# Altium schematic symbol library smartlock.SchLib: 16 symbols
Pins are listed as number, name and electrical type; pins without a type are passive.

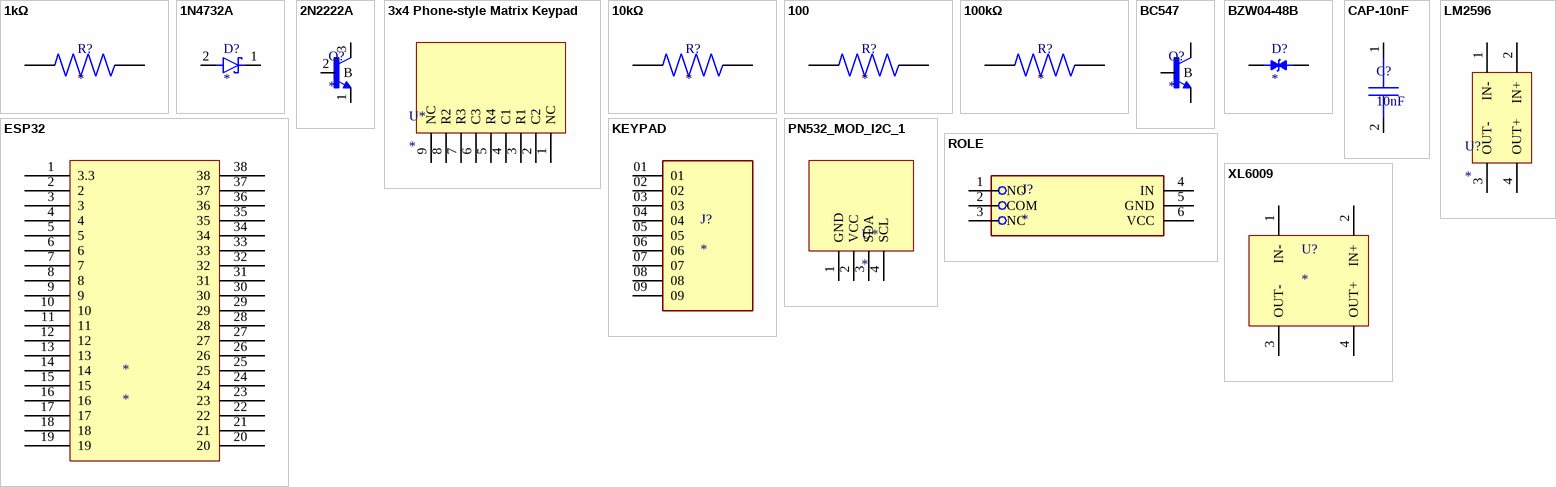
[diagram p0: symbols 1kΩ to XL6009]

## 1kΩ
designator R?
1.07 kOhms Â±1% 0.25W, 1/4W Through Hole Resistor Axial - Metal Film; MF: Yageo; MP: MFR-25FBF52-1K; SnapEDA_Link: https://www.snapeda.com/parts/MFR-25FBF52-1K/Yageo/view-part/?ref=snap; Package: RADIAL-2 YAGEO; Value: *; Check_prices: https://www.snapeda.com/parts/MFR-25FBF52-1K/Yageo/view-part/?ref=eda
footprint 1k?
pins: 1, 2

## 1N4732A
designator D?
Zener Diode 4.7 V 1 W Â±5% Through Hole DO-41; MF: ON Semiconductor; MP: 1N4732A; SnapEDA_Link: https://www.snapeda.com/parts/1N4732A/Onsemi/view-part/?ref=snap; Package: DO-41 ON Semiconductor; Value: *; Check_prices: https://www.snapeda.com/parts/1N4732A/Onsemi/view-part/?ref=eda
footprint 1N4732A (Zener Diode 4.7 V 1 W ±5% Through Hole DO-41)
pins: 1 K, 2 A

## 2N2222A
designator Q?
BJT, TO-92, 40V, 600mA, NPN, 0.625W, 150Â°C; MF: Diotec Semiconductor; MP: 2N2222A; SnapEDA_Link: https://www.snapeda.com/parts/2N2222A/Diotec/view-part/?ref=snap; Package: TO-92 Diotec; Value: *; Check_prices: https://www.snapeda.com/parts/2N2222A/Diotec/view-part/?ref=eda
footprint TO92254P470H750-3
pins: 1 E, 2 B, 3 C

## 3x4 Phone-style Matrix Keypad
designator U*
footprint 3x4 Phone-style Matrix Keypad
pins: 1 NC, 2 C2, 3 R1, 4 C1, 5 R4, 6 C3, 7 R3, 8 R2, 9 NC

## 10kΩ
designator R?
MF: Yageo; MP: MFR-25FBF52-1K; SnapEDA_Link: https://www.snapeda.com/parts/MFR-25FBF52-1K/Yageo/view-part/?ref=snap; Package: RADIAL-2 YAGEO; Value: *; Check_prices: https://www.snapeda.com/parts/MFR-25FBF52-1K/Yageo/view-part/?ref=eda
footprint 10k?
pins: 1, 2

## 100
designator R?
MF: Yageo; MP: MFR-25FBF52-1K; SnapEDA_Link: https://www.snapeda.com/parts/MFR-25FBF52-1K/Yageo/view-part/?ref=snap; Package: RADIAL-2 YAGEO; Value: *; Check_prices: https://www.snapeda.com/parts/MFR-25FBF52-1K/Yageo/view-part/?ref=eda
footprint 100r
pins: 1, 2

## 100kΩ
designator R?
MF: Yageo; MP: MFR-25FBF52-1K; SnapEDA_Link: https://www.snapeda.com/parts/MFR-25FBF52-1K/Yageo/view-part/?ref=snap; Package: RADIAL-2 YAGEO; Value: *; Check_prices: https://www.snapeda.com/parts/MFR-25FBF52-1K/Yageo/view-part/?ref=eda
footprint 100k?
pins: 1, 2

## BC547
designator Q?
MF: Diotec Semiconductor; MP: 2N3904; SnapEDA_Link: https://www.snapeda.com/parts/2N3904/Diotec/view-part/?ref=snap; Package: TO-92 Diotec; Value: *; Check_prices: https://www.snapeda.com/parts/2N3904/Diotec/view-part/?ref=eda
footprint BC547
pins: 1 E, 2 B, 3 C

## BZW04-48B
designator D?
MP: BZW04-48B; Package: None; Price: None; Value: *; Availability: Unavailable
footprint DIOAD1300W80L670D310
pins: 1, 2

## CAP-10nF
designator C?, comment 10nF
MP: DE2E3KY332MA3BM02F; Package: None; Price: None; Value: *; Availability: Unavailable
footprint CAP-10nF (10nF)
pins: 1, 2

## ESP32
designator *
footprint ESP32
pins: 1 3.3, 2, 3, 4, 5, 6, 7, 8, 9, 10, 11, 12, 13, 14, 15, 16, 17, 18, 19, 20, 21, 22, 23, 24, 25, 26, 27, 28, 29, 30, 31, 32, 33, 34, 35, 36, 37, 38

## KEYPAD
designator J?
Connector Header Through Hole 9 position 0.100 (2.54mm); MF: Samtec; MP: TSW-109-14-G-S; SnapEDA_Link: https://www.snapeda.com/parts/TSW-109-14-G-S/Samtec/view-part/?ref=snap; Package: None; Value: *; Check_prices: https://www.snapeda.com/parts/TSW-109-14-G-S/Samtec/view-part/?ref=eda
footprint KEYPAD
pins: 01, 02, 03, 04, 05, 06, 07, 08, 09

## LM2596
designator U?
footprint LM2698
pins: 1 IN-, 2 IN+, 3 OUT-, 4 OUT+

## PN532_MOD_I2C_1
designator U*
footprint PN532_NFC_MOD_I2C
pins: 1 GND, 2 VCC, 3 SDA, 4 SCL

## ROLE
designator J?
PCB Terminal Screw 5mm 12AWG 400V 24A 3 Position COMBICON MKDSP Series | Phoenix Contact 1714036; SnapEDA_Link: https://www.snapeda.com/parts/1714036/Phoenix+Contact/view-part/?ref=snap; Package: None; Value: *; MF: Phoenix Contact; MP: 1714036; Check_prices: https://www.snapeda.com/parts/1714036/Phoenix+Contact/view-part/?ref=eda
footprint ROLE
pins: 1 NO, 2 COM, 3 NC, 4 IN, 5 GND, 6 VCC

## XL6009
designator U?
footprint XL6009
pins: 1 IN-, 2 IN+, 3 OUT-, 4 OUT+